# Altium footprint library Discrete_Passive.PcbLib: 311 footprints (part 9 of 20)
Each footprint in its own frame and in the unit in brackets; x right, y up, seen from the top. Pads: shape width x height; smd on the part's side, far side on the other; paste and mask are expansions set on the pad; w line width, h text height; cw(c..) or ccw(c..) is an arc to the next point about the centre after c.
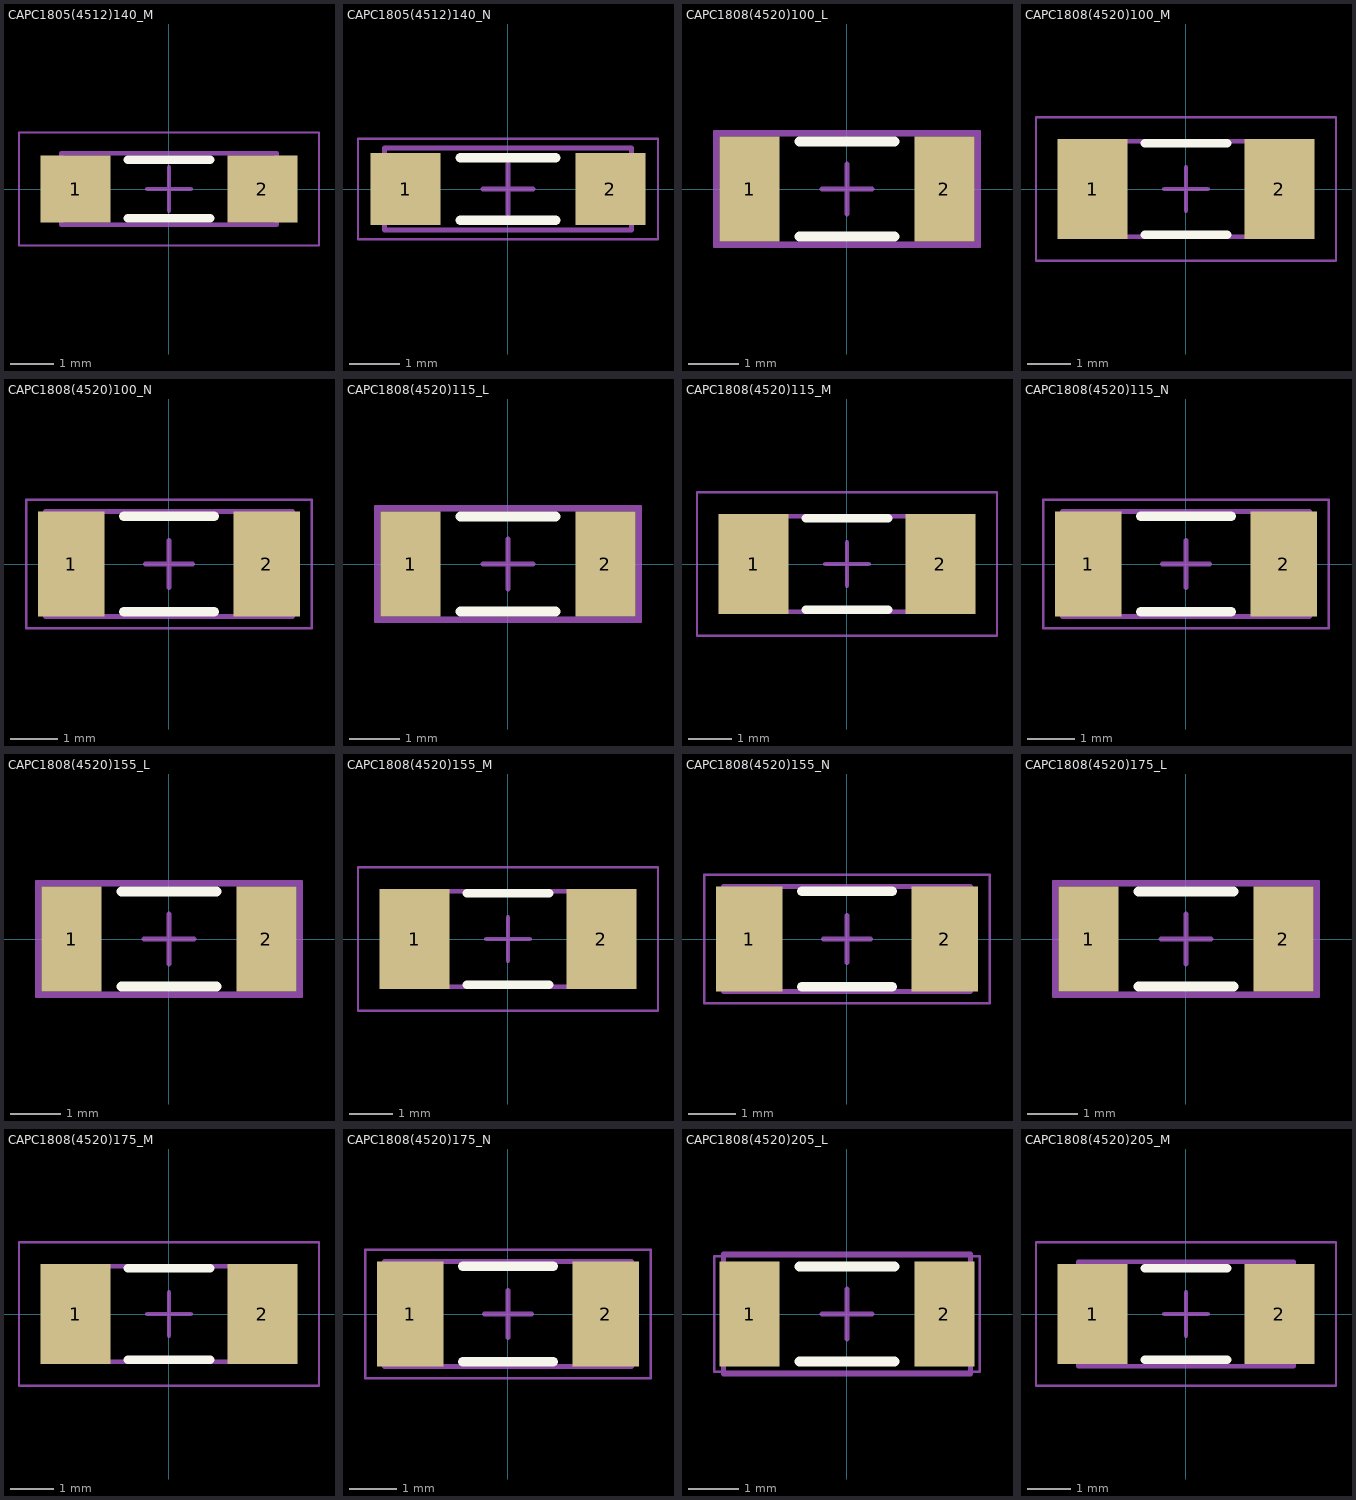
[diagram p8: the footprints below, top view; thin cyan lines are the x and y axes]

## CAPC1805(4512)140_M [mm] "Chip Capacitor, Body 4.5x1.2mm, Height 1.4mm, IPC Low Density"
height 1.4
pads (2):
  rect 1.6x1.55 smd: 1(-2.15,0) 2(2.15,0)
Top Overlay:
  lines w0.2: -0.95,-0.675 0.95,-0.675 ; -0.95,0.675 0.95,0.675
Mechanical 13:
  lines w0.1: -2.475,-0.825 2.475,-0.825 2.475,0.825 -2.475,0.825 -2.475,-0.825
Mechanical 15:
  lines w0.05: -3.45,-1.3 3.45,-1.3 3.45,1.3 -3.45,1.3 -3.45,-1.3
  lines w0.1: -0.5,0 0.5,0 ; 0,-0.5 0,0.5
3D body: height 1.4, standoff 0, extent 1.975,-0.825 2.475,0.825
3D body: height 1.4, standoff 0, extent -2.475,-0.825 -1.975,0.825
3D body: height 1.4, standoff 0, extent -1.975,-0.825 1.975,0.825

## CAPC1805(4512)140_N [mm] "Chip Capacitor, Body 4.5x1.2mm, Height 1.4mm, IPC Medium Density"
height 1.4
pads (2):
  rect 1.4x1.45 smd: 1(-2.05,0) 2(2.05,0)
Top Overlay:
  lines w0.2: -0.95,-0.625 0.95,-0.625 ; -0.95,0.625 0.95,0.625
Mechanical 13:
  lines w0.1: -2.475,-0.825 2.475,-0.825 2.475,0.825 -2.475,0.825 -2.475,-0.825
Mechanical 15:
  lines w0.05: -3,-1 3,-1 3,1 -3,1 -3,-1
  lines w0.1: -0.5,0 0.5,0 ; 0,-0.5 0,0.5
3D body: height 1.4, standoff 0, extent 1.975,-0.825 2.475,0.825
3D body: height 1.4, standoff 0, extent -2.475,-0.825 -1.975,0.825
3D body: height 1.4, standoff 0, extent -1.975,-0.825 1.975,0.825

## CAPC1808(4520)100_L [mm] "Chip Capacitor, Body 4.5x2.0mm, Height 1mm, IPC High Density"
height 1
pads (2):
  rect 1.2x2.1 smd: 1(-1.95,0) 2(1.95,0)
Top Overlay:
  lines w0.2: -0.95,-0.95 0.95,-0.95 ; -0.95,0.95 0.95,0.95
Mechanical 13:
  lines w0.1: -2.6,-1.1 2.6,-1.1 2.6,1.1 -2.6,1.1 -2.6,-1.1
Mechanical 15:
  lines w0.05: -2.65,-1.15 2.65,-1.15 2.65,1.15 -2.65,1.15 -2.65,-1.15
  lines w0.1: -0.5,0 0.5,0 ; 0,-0.5 0,0.5
3D body: height 1, standoff 0, extent 2,-1.1 2.6,1.1
3D body: height 1, standoff 0, extent -2.6,-1.1 -2,1.1
3D body: height 1, standoff 0, extent -2,-1.1 2,1.1

## CAPC1808(4520)100_M [mm] "Chip Capacitor, Body 4.5x2.0mm, Height 1mm, IPC Low Density"
height 1
pads (2):
  rect 1.6x2.3 smd: 1(-2.15,0) 2(2.15,0)
Top Overlay:
  lines w0.2: -0.95,-1.05 0.95,-1.05 ; -0.95,1.05 0.95,1.05
Mechanical 13:
  lines w0.1: -2.6,-1.1 2.6,-1.1 2.6,1.1 -2.6,1.1 -2.6,-1.1
Mechanical 15:
  lines w0.05: -3.45,-1.65 3.45,-1.65 3.45,1.65 -3.45,1.65 -3.45,-1.65
  lines w0.1: -0.5,0 0.5,0 ; 0,-0.5 0,0.5
3D body: height 1, standoff 0, extent 2,-1.1 2.6,1.1
3D body: height 1, standoff 0, extent -2.6,-1.1 -2,1.1
3D body: height 1, standoff 0, extent -2,-1.1 2,1.1

## CAPC1808(4520)100_N [mm] "Chip Capacitor, Body 4.5x2.0mm, Height 1mm, IPC Medium Density"
height 1
pads (2):
  rect 1.4x2.2 smd: 1(-2.05,0) 2(2.05,0)
Top Overlay:
  lines w0.2: -0.95,-1 0.95,-1 ; -0.95,1 0.95,1
Mechanical 13:
  lines w0.1: -2.6,-1.1 2.6,-1.1 2.6,1.1 -2.6,1.1 -2.6,-1.1
Mechanical 15:
  lines w0.05: -3,-1.35 3,-1.35 3,1.35 -3,1.35 -3,-1.35
  lines w0.1: -0.5,0 0.5,0 ; 0,-0.5 0,0.5
3D body: height 1, standoff 0, extent 2,-1.1 2.6,1.1
3D body: height 1, standoff 0, extent -2.6,-1.1 -2,1.1
3D body: height 1, standoff 0, extent -2,-1.1 2,1.1

## CAPC1808(4520)115_L [mm] "Chip Capacitor, Body 4.5x2.0mm, Height 1.15mm, IPC High Density"
height 1.15
pads (2):
  rect 1.2x2.1 smd: 1(-1.95,0) 2(1.95,0)
Top Overlay:
  lines w0.2: -0.95,-0.95 0.95,-0.95 ; -0.95,0.95 0.95,0.95
Mechanical 13:
  lines w0.1: -2.6,-1.1 2.6,-1.1 2.6,1.1 -2.6,1.1 -2.6,-1.1
Mechanical 15:
  lines w0.05: -2.65,-1.15 2.65,-1.15 2.65,1.15 -2.65,1.15 -2.65,-1.15
  lines w0.1: -0.5,0 0.5,0 ; 0,-0.5 0,0.5
3D body: height 1.15, standoff 0, extent 2,-1.1 2.6,1.1
3D body: height 1.15, standoff 0, extent -2.6,-1.1 -2,1.1
3D body: height 1.15, standoff 0, extent -2,-1.1 2,1.1

## CAPC1808(4520)115_M [mm] "Chip Capacitor, Body 4.5x2.0mm, Height 1.15mm, IPC Low Density"
height 1.15
pads (2):
  rect 1.6x2.3 smd: 1(-2.15,0) 2(2.15,0)
Top Overlay:
  lines w0.2: -0.95,-1.05 0.95,-1.05 ; -0.95,1.05 0.95,1.05
Mechanical 13:
  lines w0.1: -2.6,-1.1 2.6,-1.1 2.6,1.1 -2.6,1.1 -2.6,-1.1
Mechanical 15:
  lines w0.05: -3.45,-1.65 3.45,-1.65 3.45,1.65 -3.45,1.65 -3.45,-1.65
  lines w0.1: -0.5,0 0.5,0 ; 0,-0.5 0,0.5
3D body: height 1.15, standoff 0, extent 2,-1.1 2.6,1.1
3D body: height 1.15, standoff 0, extent -2.6,-1.1 -2,1.1
3D body: height 1.15, standoff 0, extent -2,-1.1 2,1.1

## CAPC1808(4520)115_N [mm] "Chip Capacitor, Body 4.5x2.0mm, Height 1.15mm, IPC Medium Density"
height 1.15
pads (2):
  rect 1.4x2.2 smd: 1(-2.05,0) 2(2.05,0)
Top Overlay:
  lines w0.2: -0.95,-1 0.95,-1 ; -0.95,1 0.95,1
Mechanical 13:
  lines w0.1: -2.6,-1.1 2.6,-1.1 2.6,1.1 -2.6,1.1 -2.6,-1.1
Mechanical 15:
  lines w0.05: -3,-1.35 3,-1.35 3,1.35 -3,1.35 -3,-1.35
  lines w0.1: -0.5,0 0.5,0 ; 0,-0.5 0,0.5
3D body: height 1.15, standoff 0, extent 2,-1.1 2.6,1.1
3D body: height 1.15, standoff 0, extent -2.6,-1.1 -2,1.1
3D body: height 1.15, standoff 0, extent -2,-1.1 2,1.1

## CAPC1808(4520)155_L [mm] "Chip Capacitor, Body 4.5x2.0mm, Height 1.55mm, IPC High Density"
height 1.55
pads (2):
  rect 1.2x2.1 smd: 1(-1.95,0) 2(1.95,0)
Top Overlay:
  lines w0.2: -0.95,-0.95 0.95,-0.95 ; -0.95,0.95 0.95,0.95
Mechanical 13:
  lines w0.1: -2.6,-1.1 2.6,-1.1 2.6,1.1 -2.6,1.1 -2.6,-1.1
Mechanical 15:
  lines w0.05: -2.65,-1.15 2.65,-1.15 2.65,1.15 -2.65,1.15 -2.65,-1.15
  lines w0.1: -0.5,0 0.5,0 ; 0,-0.5 0,0.5
3D body: height 1.55, standoff 0, extent 2,-1.1 2.6,1.1
3D body: height 1.55, standoff 0, extent -2.6,-1.1 -2,1.1
3D body: height 1.55, standoff 0, extent -2,-1.1 2,1.1

## CAPC1808(4520)155_M [mm] "Chip Capacitor, Body 4.5x2.0mm, Height 1.55mm, IPC Low Density"
height 1.55
pads (2):
  rect 1.6x2.3 smd: 1(-2.15,0) 2(2.15,0)
Top Overlay:
  lines w0.2: -0.95,-1.05 0.95,-1.05 ; -0.95,1.05 0.95,1.05
Mechanical 13:
  lines w0.1: -2.6,-1.1 2.6,-1.1 2.6,1.1 -2.6,1.1 -2.6,-1.1
Mechanical 15:
  lines w0.05: -3.45,-1.65 3.45,-1.65 3.45,1.65 -3.45,1.65 -3.45,-1.65
  lines w0.1: -0.5,0 0.5,0 ; 0,-0.5 0,0.5
3D body: height 1.55, standoff 0, extent 2,-1.1 2.6,1.1
3D body: height 1.55, standoff 0, extent -2.6,-1.1 -2,1.1
3D body: height 1.55, standoff 0, extent -2,-1.1 2,1.1

## CAPC1808(4520)155_N [mm] "Chip Capacitor, Body 4.5x2.0mm, Height 1.55mm, IPC Medium Density"
height 1.55
pads (2):
  rect 1.4x2.2 smd: 1(-2.05,0) 2(2.05,0)
Top Overlay:
  lines w0.2: -0.95,-1 0.95,-1 ; -0.95,1 0.95,1
Mechanical 13:
  lines w0.1: -2.6,-1.1 2.6,-1.1 2.6,1.1 -2.6,1.1 -2.6,-1.1
Mechanical 15:
  lines w0.05: -3,-1.35 3,-1.35 3,1.35 -3,1.35 -3,-1.35
  lines w0.1: -0.5,0 0.5,0 ; 0,-0.5 0,0.5
3D body: height 1.55, standoff 0, extent 2,-1.1 2.6,1.1
3D body: height 1.55, standoff 0, extent -2.6,-1.1 -2,1.1
3D body: height 1.55, standoff 0, extent -2,-1.1 2,1.1

## CAPC1808(4520)175_L [mm] "Chip Capacitor, Body 4.5x2.0mm, Height 1.75mm, IPC High Density"
height 1.75
pads (2):
  rect 1.2x2.1 smd: 1(-1.95,0) 2(1.95,0)
Top Overlay:
  lines w0.2: -0.95,-0.95 0.95,-0.95 ; -0.95,0.95 0.95,0.95
Mechanical 13:
  lines w0.1: -2.6,-1.1 2.6,-1.1 2.6,1.1 -2.6,1.1 -2.6,-1.1
Mechanical 15:
  lines w0.05: -2.65,-1.15 2.65,-1.15 2.65,1.15 -2.65,1.15 -2.65,-1.15
  lines w0.1: -0.5,0 0.5,0 ; 0,-0.5 0,0.5
3D body: height 1.75, standoff 0, extent 2,-1.1 2.6,1.1
3D body: height 1.75, standoff 0, extent -2.6,-1.1 -2,1.1
3D body: height 1.75, standoff 0, extent -2,-1.1 2,1.1

## CAPC1808(4520)175_M [mm] "Chip Capacitor, Body 4.5x2.0mm, Height 1.75mm, IPC Low Density"
height 1.75
pads (2):
  rect 1.6x2.3 smd: 1(-2.15,0) 2(2.15,0)
Top Overlay:
  lines w0.2: -0.95,-1.05 0.95,-1.05 ; -0.95,1.05 0.95,1.05
Mechanical 13:
  lines w0.1: -2.6,-1.1 2.6,-1.1 2.6,1.1 -2.6,1.1 -2.6,-1.1
Mechanical 15:
  lines w0.05: -3.45,-1.65 3.45,-1.65 3.45,1.65 -3.45,1.65 -3.45,-1.65
  lines w0.1: -0.5,0 0.5,0 ; 0,-0.5 0,0.5
3D body: height 1.75, standoff 0, extent 2,-1.1 2.6,1.1
3D body: height 1.75, standoff 0, extent -2.6,-1.1 -2,1.1
3D body: height 1.75, standoff 0, extent -2,-1.1 2,1.1

## CAPC1808(4520)175_N [mm] "Chip Capacitor, Body 4.5x2.0mm, Height 1.75mm, IPC Medium Density"
height 1.75
pads (2):
  rect 1.4x2.2 smd: 1(-2.05,0) 2(2.05,0)
Top Overlay:
  lines w0.2: -0.95,-1 0.95,-1 ; -0.95,1 0.95,1
Mechanical 13:
  lines w0.1: -2.6,-1.1 2.6,-1.1 2.6,1.1 -2.6,1.1 -2.6,-1.1
Mechanical 15:
  lines w0.05: -3,-1.35 3,-1.35 3,1.35 -3,1.35 -3,-1.35
  lines w0.1: -0.5,0 0.5,0 ; 0,-0.5 0,0.5
3D body: height 1.75, standoff 0, extent 2,-1.1 2.6,1.1
3D body: height 1.75, standoff 0, extent -2.6,-1.1 -2,1.1
3D body: height 1.75, standoff 0, extent -2,-1.1 2,1.1

## CAPC1808(4520)205_L [mm] "Chip Capacitor, Body 4.5x2.0mm, Height 2.05mm, IPC High Density"
height 2.05
pads (2):
  rect 1.2x2.1 smd: 1(-1.95,0) 2(1.95,0)
Top Overlay:
  lines w0.2: -0.95,-0.95 0.95,-0.95 ; -0.95,0.95 0.95,0.95
Mechanical 13:
  lines w0.1: -2.475,-1.2 2.475,-1.2 2.475,1.2 -2.475,1.2 -2.475,-1.2
Mechanical 15:
  lines w0.05: -2.65,-1.15 2.65,-1.15 2.65,1.15 -2.65,1.15 -2.65,-1.15
  lines w0.1: -0.5,0 0.5,0 ; 0,-0.5 0,0.5
3D body: height 2.05, standoff 0, extent 1.975,-1.2 2.475,1.2
3D body: height 2.05, standoff 0, extent -2.475,-1.2 -1.975,1.2
3D body: height 2.05, standoff 0, extent -1.975,-1.2 1.975,1.2

## CAPC1808(4520)205_M [mm] "Chip Capacitor, Body 4.5x2.0mm, Height 2.05mm, IPC Low Density"
height 2.05
pads (2):
  rect 1.6x2.3 smd: 1(-2.15,0) 2(2.15,0)
Top Overlay:
  lines w0.2: -0.95,-1.05 0.95,-1.05 ; -0.95,1.05 0.95,1.05
Mechanical 13:
  lines w0.1: -2.475,-1.2 2.475,-1.2 2.475,1.2 -2.475,1.2 -2.475,-1.2
Mechanical 15:
  lines w0.05: -3.45,-1.65 3.45,-1.65 3.45,1.65 -3.45,1.65 -3.45,-1.65
  lines w0.1: -0.5,0 0.5,0 ; 0,-0.5 0,0.5
3D body: height 2.05, standoff 0, extent 1.975,-1.2 2.475,1.2
3D body: height 2.05, standoff 0, extent -2.475,-1.2 -1.975,1.2
3D body: height 2.05, standoff 0, extent -1.975,-1.2 1.975,1.2